# Altium footprint library TPS72.PcbLib: 1 footprints
Each footprint in its own frame and in the unit in brackets; x right, y up, seen from the top. Pads: shape width x height; smd on the part's side, far side on the other; paste and mask are expansions set on the pad; w line width, h text height; cw(c..) or ccw(c..) is an arc to the next point about the centre after c.
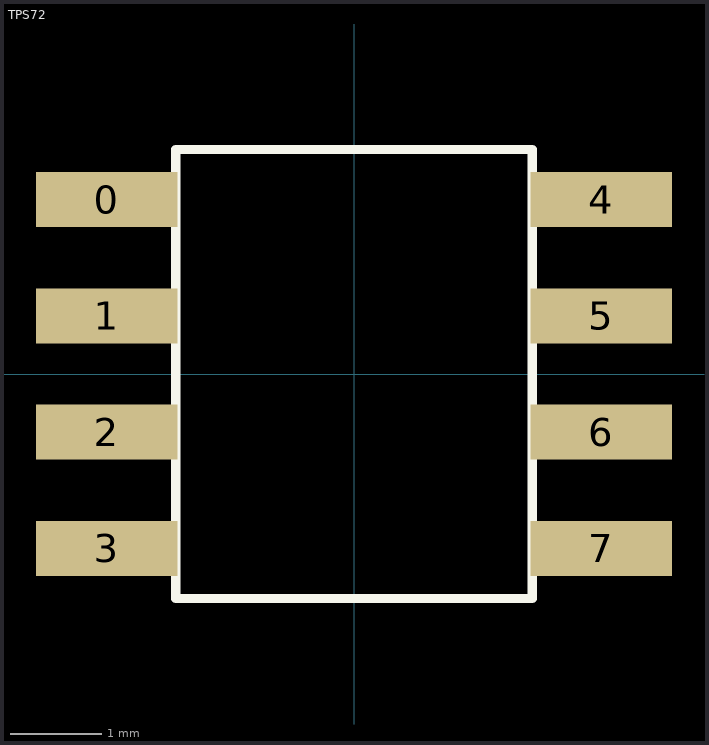
[diagram p0: the footprint, top view; thin cyan lines are the x and y axes]

## TPS72 [mm]
pads (8):
  rect 1.55x0.6 smd: 0(-2.7,1.905) 1(-2.7,0.635) 2(-2.7,-0.635) 3(-2.7,-1.905) 4(2.7,1.905) 5(2.7,0.635) 6(2.7,-0.635) 7(2.7,-1.905)
Top Overlay:
  lines w0.1: -1.947,-2.452 -1.947,2.452 1.947,2.452 1.947,-2.452 -1.947,-2.452